# Altium schematic symbol library ARJM11D7-009-AB-EW2.SchLib: 1 symbol
Pins are listed as number, name and electrical type; pins without a type are passive.

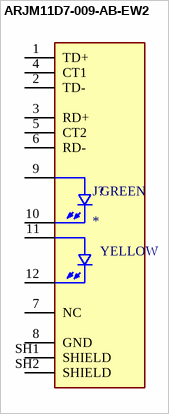
[diagram p0: symbol ARJM11D7-009-AB-EW2]

## ARJM11D7-009-AB-EW2
designator J?
MF: {'manufacturer': u'Abracon LLC'}; MP: ARJM11D7-009-AB-EW2; Package: None; Price: None; Value: *; Availability: Unavailable
footprint ABRACON_ARJM11D7-009-AB-EW2
pins: 1 TD+, 2 TD-, 3 RD+, 4 CT1, 5 CT2, 6 RD-, 7 NC, 8 GND (power), 9, 10, 11, 12, SH1 SHIELD, SH2 SHIELD
text: GREEN; YELLOW